# Altium integrated library SPARK_GAP.IntLib: 1 symbol
Pins are listed as number, name and electrical type; pins without a type are passive.

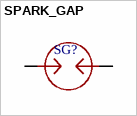
[diagram p0: symbol SPARK_GAP]

## SPARK_GAP
designator SG?
footprint SPARK_GAP
pins: 1, 2